# Altium footprint library 很多常用的封装带3D.PcbLib: 48 footprints (part 1 of 3)
Each footprint in its own frame and in the unit in brackets; x right, y up, seen from the top. Pads: shape width x height; smd on the part's side, far side on the other; paste and mask are expansions set on the pad; w line width, h text height; cw(c..) or ccw(c..) is an arc to the next point about the centre after c.
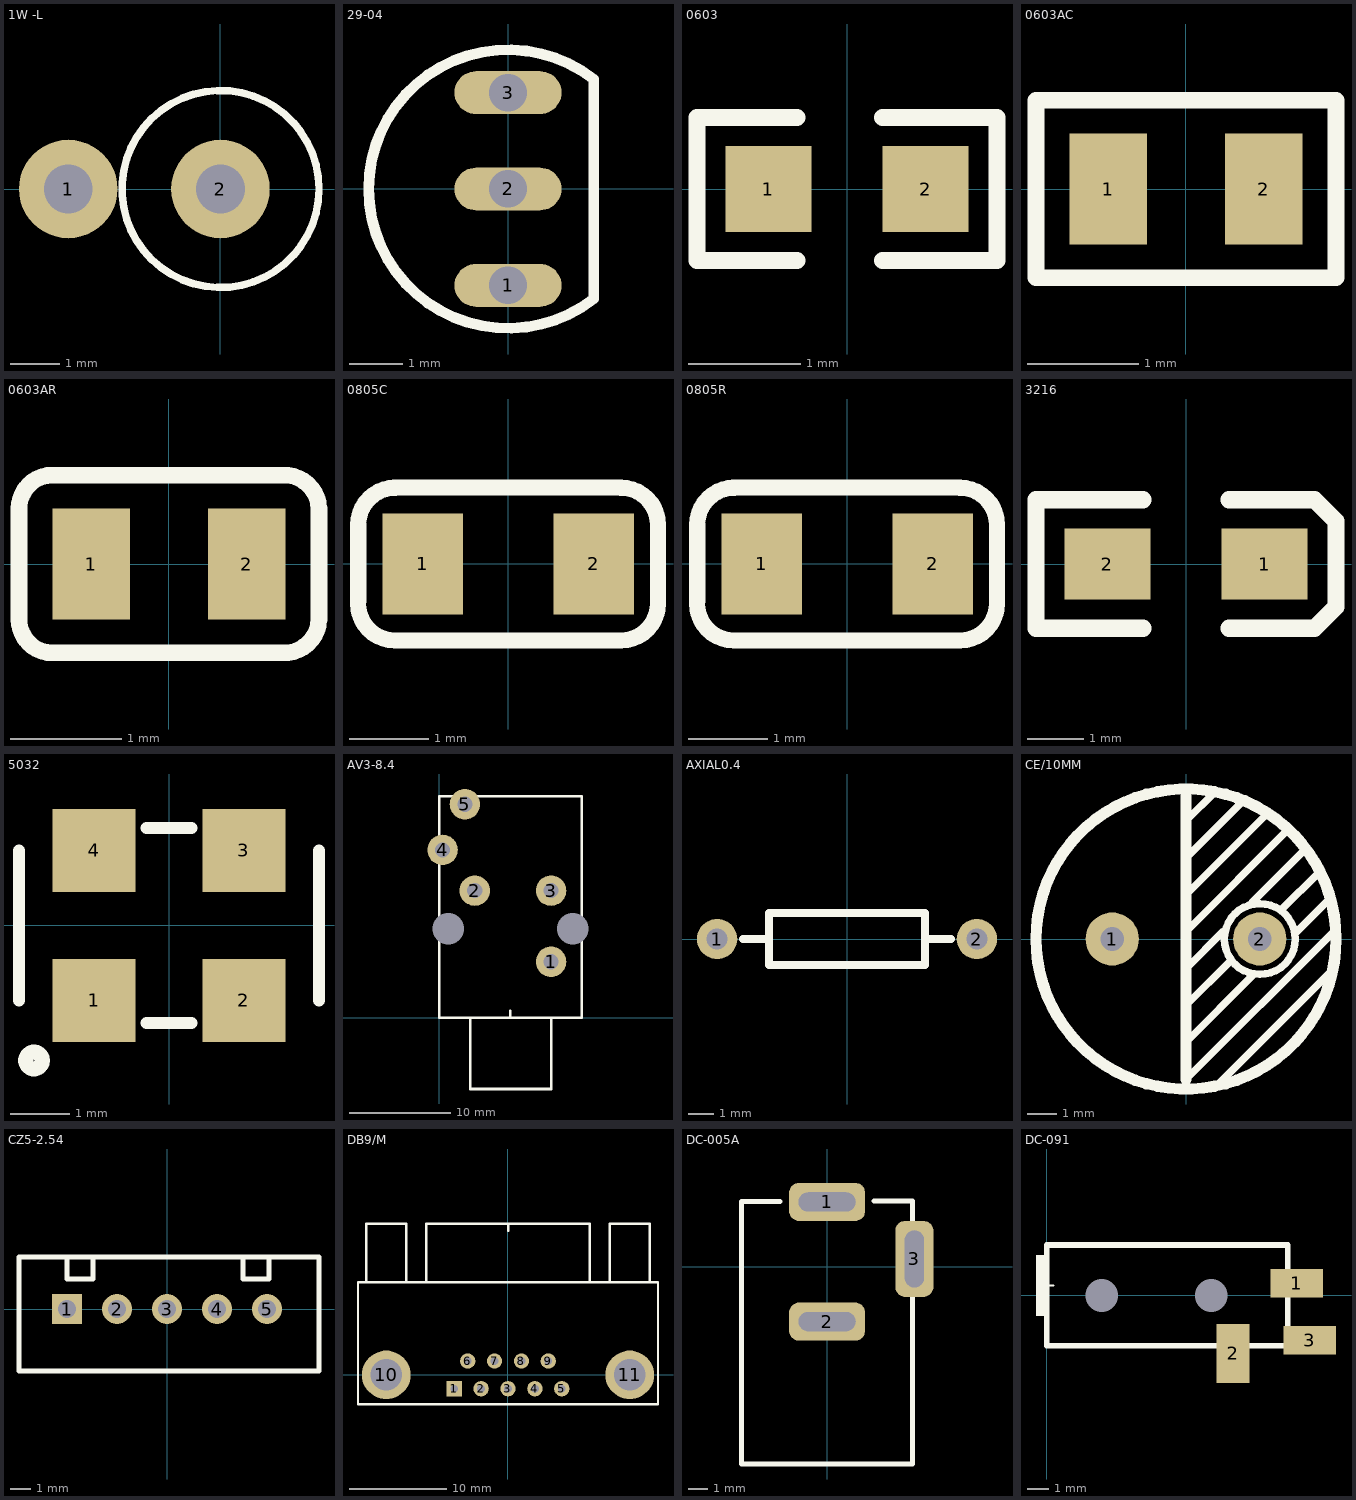
[diagram p0: the footprints below, top view; thin cyan lines are the x and y axes]

## 1W -L [mil]
pads (2):
  round 79 hole 39: 1(-122.05,0) 2(0,0)
Top Overlay:
  circle w6: c0,0 r79
3D body: height 572.61, standoff -75.5, extent -137.23,-83.35 83.23,82

## 29-04 [mm] "TO, Flat Index; 3 In-Line, Axial Leads; Body Dia. 4.8mm; Leads 0.48 x 0.5 mm (max)"
height 5.33
pads (3):
  oval 2x0.8 hole 0.7: 1(0,-1.8) 2(0,0) 3(0,1.8)
Top Overlay:
  lines w0.2: 1.601,-2.049 cw(c0,0) 1.601,2.049 ; 1.6,-1.99 1.6,1.99
3D body: height 3, standoff 0, extent -0.25,-2.04 0.25,-1.6
3D body: height 3, standoff 0, extent -0.25,-0.22 0.25,0.22
3D body: height 3, standoff 0, extent -0.246,1.583 0.254,2.023
3D body: height 8, standoff 3, extent -2.612,-2.6 1.657,2.602

## 0603 [mil] "贴片0603"
pads (2):
  rect 30x30 smd: 1(-27.5,0) 2(27.5,0)
Top Overlay:
  lines w6: -17.5,-25 -52.5,-25 -52.5,25 -17.5,25 ; 12.5,-25 52.5,-25 52.5,25 12.5,25

## 0603AC [mm]
pads (2):
  rect 0.7x1 smd: 1(-0.7,0) 2(0.7,0)
Top Overlay:
  lines w0.15: -1.35,-0.8 -1.35,0.8 1.35,0.8 1.35,-0.8 -1.35,-0.8
3D body: height 0.3, standoff 0, extent -0.789,-0.381 0.811,0.419

## 0603AR [mm]
pads (2):
  rect 0.7x1 smd: 1(-0.7,0) 2(0.7,0)
Top Overlay:
  lines w0.15: 1.35,0.475 1.35,-0.5 cw(c1.038,-0.487) 1.025,-0.8 -1.05,-0.8 cw(c-1.05,-0.5) -1.35,-0.5 -1.35,0.5 cw(c-1.05,0.5) -1.05,0.8 1.025,0.8 cw(c1.038,0.487) 1.35,0.5
3D body: height 0.3, standoff 0, extent -0.8,-0.4 0.8,0.4

## 0805C [mil]
height 39.37
pads (2):
  rect 40x50 smd: 1(-42.5,0) 2(42.5,0)
Top Overlay:
  lines w8: -74.61,-19.59 ccw(c-56.2,-19.59) -56.2,-38 ; -74.5,-18.5 -74.5,18.5 ; -74.5,19.5 cw(c-56.09,19.5) -56.09,37.91 ; -56.62,38 55.59,38 ; -55.2,-38 55.61,-38 ; 56.09,-38 ccw(c56.09,-19.59) 74.5,-19.59 ; 56.09,37.91 cw(c56.09,19.5) 74.5,19.5 ; 74.5,-18.59 74.5,18.5
3D body: height 30.39, standoff -0.39, extent -39.35,-24.61 39.39,24.61

## 0805R [mil]
height 39.37
pads (2):
  rect 40x50 smd: 1(-42.5,0) 2(42.5,0)
Top Overlay:
  lines w8: -74.61,-19.59 ccw(c-56.2,-19.59) -56.2,-38 ; -74.5,-18.5 -74.5,18.5 ; -74.5,19.5 cw(c-56.09,19.5) -56.09,37.91 ; -56.62,38 55.59,38 ; -55.2,-38 55.61,-38 ; 56.09,-38 ccw(c56.09,-19.59) 74.5,-19.59 ; 56.09,37.91 cw(c56.09,19.5) 74.5,19.5 ; 74.5,-18.59 74.5,18.5
3D body: height 30.39, standoff -0.39, extent -39.24,-24.61 39.5,24.61

## 3216 [mil]
pads (2):
  rect 60x50 smd: 1(55,0) 2(-55,0)
Top Overlay:
  lines w12: -30,-45 -105,-45 -105,45 -30,45 ; 30,-45 90,-45 105,-30 105,30 90,45 30,45
3D body: height 62.99, standoff 0, extent -62.98,-31.5 63,31.5

## 5032 [mm] "SMD, 5mm x 7mm"
pads (4):
  rect 1.4x1.4 smd: 1(-1.27,-1.27) 2(1.27,-1.27) 3(1.27,1.27) 4(-1.27,1.27)
Top Overlay:
  circle w0.254: c-2.286,-2.286 r0.141
  lines w0.2: -2.54,-1.27 -2.54,1.27 ; -0.381,-1.651 0.381,-1.651 ; -0.381,1.651 0.381,1.651 ; 2.54,-1.27 2.54,1.27

## AV3-8.4 [mm]
pads (7):
  round 3 hole 1.5: 1(11,5.5) 2(3.5,12.5) 3(11,12.5) 4(0.325,16.5) 5(2.525,21)
  round 3 hole 3.1 unplated: ""(0.9,8.75) ""(13.15,8.75)
Top Overlay:
  lines w0.254: 3.04,0 3.04,-7.02 11.02,-7.02 11.02,0 ; 7,0 7,0.66 ; 0,0 0,21.8 14,21.8 14,0 0,0
3D body: height 40.92, standoff -4.32, extent 0.3,-8.208 17.115,23.008

## AXIAL0.4 [mil] "电阻焊盘间距10.16mm"
pads (2):
  round 62 hole 32: 1(-200,0) 2(200,0)
Top Overlay:
  lines w12: -160,0 -120,0 ; 120,0 160,0 ; -120,-40 -120,40 120,40 120,-40 -120,-40

## CE/10MM [mm]
pads (2):
  round 1.8 hole 0.8: 1(-2.5,0) 2(2.5,0)
Top Overlay:
  circle w0.381: c0,0 r5.08
  circle w0.254: c2.5,0 r1.2
  lines w0.254: 0,-4.75 5,0.25 ; 0,-3.5 2.25,-1.25 ; 0,-2.25 1.5,-0.75 ; 0,-1 1.25,0.25 ; 0,0.25 3.5,3.75 ; 0,1.5 2.75,4.25 ; 0,4 1,5 ; 0.125,2.875 2,4.75 ; 1,-5 5,-1 ; 2.25,1.25 4,3 ; 3.25,1 4.5,2.25 ; 3.75,0.25 4.75,1.25 ; 4.871,-1.589 4.9,-1.425
  lines w0.381: 0,-4.75 0,4.826
3D body: height 16.53, standoff -3.74, extent -5.051,-5 5,5.051

## CZ5-2.54 [mm]
pads (5):
  rect 1.5x1.5 hole 0.9: 1(-5,0)
  round 1.5 hole 0.9: 2(-2.5,0) 3(0,0) 4(2.5,0) 5(5,0)
Top Overlay:
  lines w0.254: -5,2.6 -5,1.5 -3.7,1.5 -3.7,2.6 ; 3.8,2.6 3.8,1.5 5.1,1.5 5.1,2.6 ; -7.4,-3.1 7.6,-3.1 7.6,2.6 -7.4,2.6 -7.4,-3.1
3D body: height 7, standoff -3.4, extent -7.511,-3.388 7.519,2.362

## DB9/M [mm]
pads (11):
  rect 1.575x1.575 hole 0.8: 1(-5.52,-1.42)
  round 1.575 hole 0.8: 2(-2.76,-1.42) 3(0,-1.42) 4(2.76,-1.42) 5(5.52,-1.42) 6(-4.14,1.42) 7(-1.38,1.42) 8(1.38,1.42) 9(4.14,1.42)
  round 5 hole 3.25: 10(-12.5,0) 11(12.5,0)
Top Overlay:
  lines w0.254: -14.57,9.5 -14.57,15.5 -10.46,15.5 ; -10.43,9.5 -10.43,15.5 ; -8.37,9.5 -8.37,15.5 8.38,15.5 8.38,9.5 ; 0.005,14.78 0.005,15.48 ; 10.43,9.5 10.43,15.5 14.54,15.5 ; 14.57,9.5 14.57,15.5 ; -15.4,-3 -15.4,9.5 15.4,9.5 15.4,-3 -15.4,-3
3D body: height 12.81, standoff -2.91, extent -15.445,-3.432 15.365,15.643

## DC-005A [mm]
pads (3):
  rrect50% 4x2 hole 1 slot 3 at 0 deg: 1(-0.014,3.404) 2(-0.014,-2.896)
  rrect50% 2x4 hole 1 slot 3 at 90 deg: 3(4.586,0.404)
Top Overlay:
  lines w0.254: -2.496,3.422 -4.514,3.422 -4.514,-10.396 4.486,-10.396 4.486,-1.596 ; 2.443,3.447 4.486,3.447 4.486,2.404
3D body: height 11.02, standoff -3.48, extent -4.517,-10.379 4.989,3.447

## DC-091 [mm]
pads (5):
  round 0 hole 1.5 mask+0: 0(2.5,0) 0(7.5,0)
  rect 2.4x1.3 smd: 1(11.4,0.55) 3(12,-2.05)
  rect 1.5x2.7 smd: 2(8.5,-2.65)
Top Overlay:
  rectangle: -0.5,-0.95 0.1,1.85
  lines w0.1: -0.2,0.45 0.3,0.45
  lines w0.254: 0,-2.3 11,-2.3 11,2.3 0,2.3 0,-2.3
3D body: height 4.4, standoff -0.8, extent 0.025,-3.875 12.625,2.425